# Altium footprint library TXS2-L.PcbLib: 2 footprints
Each footprint in its own frame and in the unit in brackets; x right, y up, seen from the top. Pads: shape width x height; smd on the part's side, far side on the other; paste and mask are expansions set on the pad; w line width, h text height; cw(c..) or ccw(c..) is an arc to the next point about the centre after c.
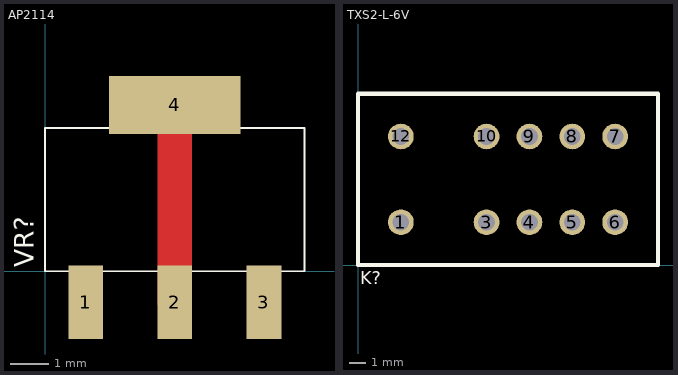
[diagram p0: the footprints below, top view; thin cyan lines are the x and y axes]

## AP2114 [mm] "Generic SOT-223"
pads (4):
  rect 0.9x1.9 smd: 1(1.05,-0.8) 2(3.35,-0.8) 3(5.65,-0.8)
  rect 3.4x1.5 smd: 4(3.35,4.3)
Top Layer:
  lines w0.9: 3.35,-0.8 3.35,4.3
Top Overlay:
  lines w0.051: 0,0 6.7,0 6.7,3.7 0,3.7 0,0
  text "VR?" at -0.3,0.1 h0.5

## TXS2-L-6V [mil]
pads (10):
  round 60 hole 39: 1(100,100) 3(300,100) 4(400,100) 5(500,100) 6(600,100) 7(600,300) 8(500,300) 9(400,300) 10(300,300) 12(100,300)
Top Overlay:
  lines w10: 0,0 700,0 700,400 0,400 0,0
  text "K?" at 5,-45 h30